# Altium footprint library Connectors Card.PcbLib: 3 footprints
Each footprint in its own frame and in the unit in brackets; x right, y up, seen from the top. Pads: shape width x height; smd on the part's side, far side on the other; paste and mask are expansions set on the pad; w line width, h text height; cw(c..) or ccw(c..) is an arc to the next point about the centre after c.
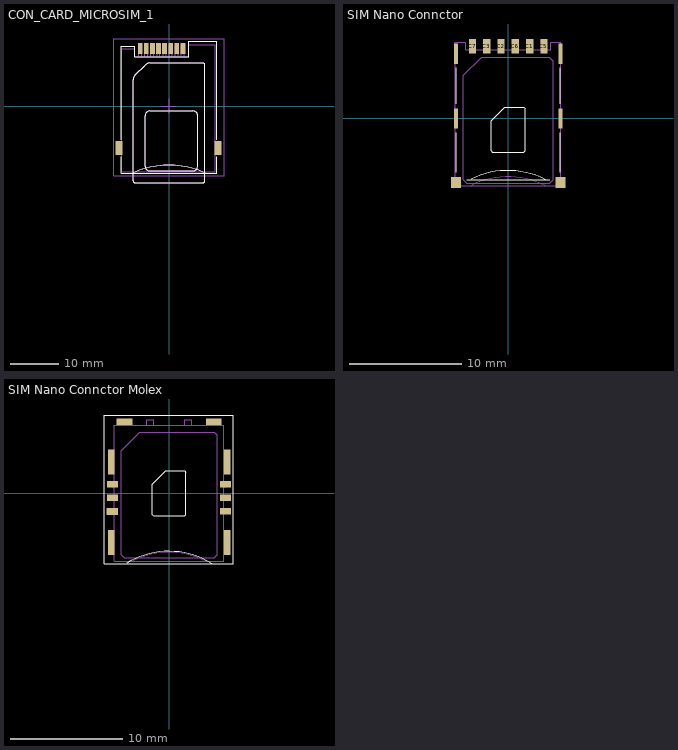
[diagram p0: the footprints below, top view; thin cyan lines are the x and y axes]

## CON_CARD_MICROSIM_1 [mm] "Push 6 pins SIM connector with detect pin"
height 2.34
pads (10):
  rect 1x2.3 smd: C1(2.89,12) C2(0.35,12) C3(-2.19,12) C5(1.62,12) C6(-0.92,12) C7(-3.46,12) CD1(-6,12) CD2(-4.73,12)
  rect 1.5x2.95 smd: Case(-10.4,-8.7) Case(10.2,-8.7)
Top Overlay:
  lines w0.1: -10,-10.5 -10,-14 10,-14 10,-10.5 ; -10,-7 -10,12.5 -7.1,12.5 -7.1,10.3 4.1,10.3 4.1,13.5 10,13.5 10,-7 ; -7.531,-13.932 cw(c0,-30.411) 7.531,-13.932
  lines w0.2: -7,6.5 ccw(c-6.25,5.5) -7.5,5.5 -7.5,-15.5 ccw(c-7,-15.5) -7,-16 7,-16 ccw(c7,-15.5) 7.5,-15.5 7.5,8.5 ccw(c7,8.5) 7,9 -4,9 ccw(c-4,7.75) -5,8.5 -7,6.5 ; -7,6.5 -7,6.5 ; -5,-12.5 ccw(c-4,-12.5) -4,-13.5 5,-13.5 ccw(c5,-12.5) 6,-12.5 6,-2 ccw(c5,-2) 5,-1 -4,-1 ccw(c-4,-2) -5,-2 -5,-12.5
Top Package:
  lines w0.1: -9.8,-9.525 -10.9,-9.525 -10.9,-7.825 -9.8,-7.825 ; -7,-13.7 cw(c0,-30.411) 7,-13.7 ; -6.3,10.3 -6.3,12.6 -5.7,12.6 -5.7,10.3 ; -5.03,10.3 -5.03,12.6 -4.43,12.6 -4.43,10.3 ; -3.76,10.3 -3.76,12.6 -3.16,12.6 -3.16,10.3 ; -2.49,10.3 -2.49,12.6 -1.89,12.6 -1.89,10.3 ; -1.22,10.3 -1.22,12.6 -0.62,12.6 -0.62,10.3 ; 0.05,10.3 0.05,12.6 0.65,12.6 0.65,10.3 ; 1.32,10.3 1.32,12.6 1.92,12.6 1.92,10.3 ; 2.59,10.3 2.59,12.6 3.19,12.6 3.19,10.3 ; 9.6,-9.575 10.7,-9.575 10.7,-7.875 9.6,-7.875 ; -9.8,-13.7 -9.8,12 -7.1,12 -7.1,10.3 4.1,10.3 4.1,12.8 9.6,12.8 9.6,-13.7 -9.8,-13.7
  lines w0.2: -7,6.5 ccw(c-6.25,5.5) -7.5,5.5 -7.5,-15.5 ccw(c-7,-15.5) -7,-16 7,-16 ccw(c7,-15.5) 7.5,-15.5 7.5,8.5 ccw(c7,8.5) 7,9 -4,9 ccw(c-4,7.75) -5,8.5 -7,6.5 ; -7,6.5 -7,6.5 ; -5,-12.5 ccw(c-4,-12.5) -4,-13.5 5,-13.5 ccw(c5,-12.5) 6,-12.5 6,-2 ccw(c5,-2) 5,-1 -4,-1 ccw(c-4,-2) -5,-2 -5,-12.5
Top Border:
  lines w0.1: -1.5,0 1.5,0 ; 0,-1.5 0,1.5 ; -11.5,-14.5 -11.5,14 11.5,14 11.5,-14.5 -11.5,-14.5
3D body "475530001.stp": height -0.42, standoff -2.25, extent -10.525,-13.75 10.425,12.75

## SIM Nano Connctor [mm] "Nano SIM Card Connector WR-CRD, Push & Pull"
height 1.2
pads (12):
  rect 0.65x1.3 smd: C1(1.91,6.42) C2(-0.64,6.42) C3(-1.91,6.42) C5(3.18,6.42) C6(0.64,6.42) C7(-3.18,6.42)
  rect 0.9x1 smd: CASE(-4.65,-5.72) CASE(4.65,-5.72)
  rect 0.35x1.8 smd: CASE(-4.65,0) CASE(-4.65,5.75) CASE(4.65,0) CASE(4.65,5.75)
Top Overlay:
  lines w0.1: -4.65,-4.8 -4.65,-1.3 ; -4.65,1.3 -4.65,4.5 ; -3.7,-5.45 3.7,-5.45 ; -3.308,-5.436 cw(c-0.018,-11.874) 3.3,-5.45 ; 4.65,-4.8 4.65,-1.3 ; 4.65,1.3 4.65,4.5 ; -1.5,-2.9 -1.4,-3 1.4,-3 1.5,-2.9 1.5,0.9 1.4,1 -0.3,1 -1.5,-0.2 -1.5,-2.9
Top Package:
  lines w0.1: -4.9,-6.2 -4.7,-6 ; -3.4,6.1 -3.4,7 -2.95,7 -2.95,6.1 ; -3.308,-5.986 cw(c-0.018,-12.424) 3.3,-6 ; -2.13,6.1 -2.13,7 -1.68,7 -1.68,6.1 ; -0.86,6.1 -0.86,7 -0.41,7 -0.41,6.1 ; 0.42,6.1 0.42,7 0.87,7 0.87,6.1 ; 1.69,6.1 1.69,7 2.14,7 2.14,6.1 ; 2.96,6.1 2.96,7 3.41,7 3.41,6.1 ; 4.9,-6.2 4.7,-6 ; -4.7,-6 -4.7,6.8 -3.8,6.8 -3.8,6.125 3.8,6.125 3.8,6.8 4.7,6.8 4.7,-6 ; -4.7,-6 4.7,-6 ; -4,-5.475 -3.7,-5.775 3.7,-5.775 4,-5.475 4,5.1 3.65,5.45 -2.375,5.45 -4,3.825 -4,-5.475
3D body "693043020611.stp": height 1.22, standoff 0.01, extent -4.75,-6.25 4.75,6.25

## SIM Nano Connctor Molex [mm] "Nano SIM Card Connector Molex, Push & Pull"
height 1.2
pads (12):
  rect 0.6x2.2 smd: 0(-5.2,-4.4) 0(-5.175,2.8) 0(5.2,-4.4) 0(5.2,2.8)
  rect 1.4x0.6 smd: 0(-4,6.4) 0(4,6.4)
  rect 1x0.6 smd: C1(5.05,-1.6) C2(5.05,-0.4) C3(-5.1,-1.625) C5(5.05,0.8) C6(-5.075,-0.4) C7(-5.075,0.8)
Top Overlay:
  lines w0.1: -3.817,-6.272 cw(c-0.018,-12.424) 3.807,-6.288 ; -5.8,-6.3 5.75,-6.3 5.75,7 -5.8,7 -5.8,-6.3 ; -1.5,-1.9 -1.4,-2 1.4,-2 1.5,-1.9 1.5,1.9 1.4,2 -0.3,2 -1.5,0.8 -1.5,-1.9
Top Package:
  lines w0.1: -4.9,-5.3 -5.2,-5.3 -5.2,-3.5 -4.9,-3.5 ; -4.9,-1.8 -5.1,-1.8 -5.1,-1.4 -4.9,-1.4 ; -4.9,-0.6 -5.1,-0.6 -5.1,-0.2 -4.9,-0.2 ; -4.9,0.6 -5.1,0.6 -5.1,1 -4.9,1 ; -4.9,1.9 -5.2,1.9 -5.2,3.7 -4.9,3.7 ; -4.5,6.1 -4.5,6.4 -3.5,6.4 -3.5,6.1 ; -3.308,-6.086 cw(c-0.018,-12.524) 3.3,-6.1 ; -2,6.1 -2,6.6 -1.4,6.6 -1.4,6.1 ; 1.4,6.1 1.4,6.6 2,6.6 2,6.1 ; 3.5,6.1 3.5,6.4 4.5,6.4 4.5,6.1 ; 4.9,-5.3 5.2,-5.3 5.2,-3.5 4.9,-3.5 ; 4.9,-1.8 5.1,-1.8 5.1,-1.4 4.9,-1.4 ; 4.9,-0.6 5.1,-0.6 5.1,-0.2 4.9,-0.2 ; 4.9,0.6 5.1,0.6 5.1,1 4.9,1 ; 4.9,1.9 5.2,1.9 5.2,3.7 4.9,3.7 ; -4.9,-6.1 4.9,-6.1 4.9,6.1 -4.9,6.1 -4.9,-6.1 ; -4.3,-5.5 -4.025,-5.775 4.025,-5.775 4.3,-5.5 4.3,5.2 4.05,5.45 -2.65,5.45 -4.3,3.8 -4.3,-5.5